# Altium footprint library WL-TTRB.PcbLib: 2 footprints
Each footprint in its own frame and in the unit in brackets; x right, y up, seen from the top. Pads: shape width x height; smd on the part's side, far side on the other; paste and mask are expansions set on the pad; w line width, h text height; cw(c..) or ccw(c..) is an arc to the next point about the centre after c.
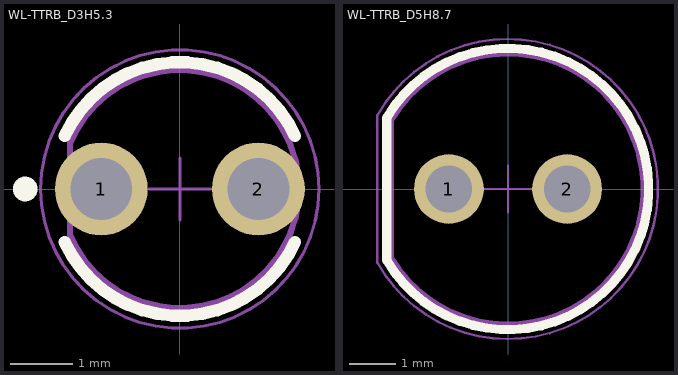
[diagram p0: the footprints below, top view; thin cyan lines are the x and y axes]

## WL-TTRB_D3H5.3 [mm] "THT Phototransistor Round Black, body diameter 3mm"
height 5.3
pads (2):
  round 1.5 hole 1: 1(-1.27,0) 2(1.27,0)
Top Overlay:
  circle w0.2: c-2.5,0 r0.1
  lines w0.2: -1.863,-0.856 ccw(c0,0) 1.863,-0.856 ; -1.863,0.856 cw(c0,0) 1.863,0.856
Top Designator:
  text ".Designator" at -3.499,-0.233 h0.7
Top Component Outline:
  lines w0.1: -1.775,-0.746 -1.775,0.746 ; -1.775,-0.746 ccw(c0,0) -1.775,0.746
Top 3D Body:
  lines w0.1: -1.775,-0.746 -1.775,0.746 ; -1.775,-0.746 ccw(c0,0) -1.775,0.746
Top Courtyard:
  circle w0.05: c0,0 r2.25
  lines w0.05: -0.5,0 0.5,0 -0.5,0 ; 0,-0.5 0,0.5 0,-0.5
3D body "1540031NC6090.stp": height 5.3, standoff -27.4, extent -1.75,-1.914 1.909,1.914

## WL-TTRB_D5H8.7 [mm] "THT Phototransistor Round Black, body diameter 5mm"
height 8.7
pads (2):
  round 1.5 hole 1: 1(-1.27,0) 2(1.27,0)
Top Overlay:
  lines w0.2: -2.608,-1.533 ccw(c0,0) -2.608,1.533 -2.608,-1.533
Top Designator:
  text ".Designator" at -5.998,-0.4 h1.2
Top Component Outline:
  lines w0.1: -2.5,-1.469 ccw(c0,0) -2.5,1.469 -2.5,-1.469
Top 3D Body:
  lines w0.1: -2.5,-1.469 ccw(c0,0) -2.5,1.469 -2.5,-1.469
Top Courtyard:
  lines w0.05: -2.808,-1.588 -2.808,1.588 ; -2.807,-1.588 ccw(c0,0) -2.807,1.588 ; -0.5,0 0.5,0 ; 0,-0.5 0,0.5
3D body "1540051NC2590.stp": height 9.2, standoff -26.9, extent -2.5,-2.9 2.9,2.899